# EAGLE library part SM09B-GHS-TB (library Picoradio1V1)
9-pin, Side entry, Shrouded, Disconnectable connector
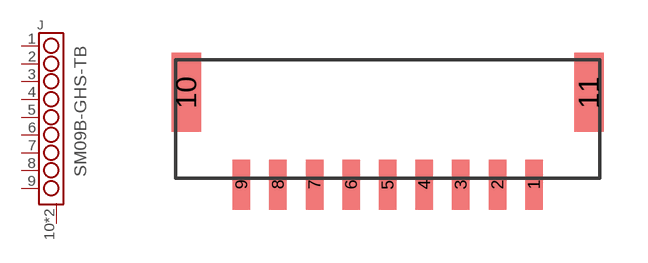
[diagram p6: symbol with the pads of SM09B-GHS-TBT; footprint SM09B-GHS-TBT]

Designator prefix J

## SM09B-GHS-TB (DIGIKEY: 455-1571-1-ND; MFR: JST America; MPN: SM09B-GHS-TB(LF)(SN))  [SM09B-GHS-TBT]
1  P$1
2  P$2
3  P$3
4  P$4
5  P$5
6  P$6
7  P$7
8  P$8
9  P$9
10  P$10
11  P$10

## Footprint SM09B-GHS-TBT (pad centres in mm)
smd 0.6 x 1.7: 1 5,-2.25; 2 3.75,-2.25; 3 2.5,-2.25; 4 1.25,-2.25; 5 0,-2.25; 6 -1.25,-2.25; 7 -2.5,-2.25; 8 -3.75,-2.25; 9 -5,-2.25
smd 1 x 2.7: 10 -6.88,0.9; 11 6.88,0.9